# Altium schematic symbol library SSW-106-02-G-D-RA.SchLib: 1 symbol
Pins are listed as number, name and electrical type; pins without a type are passive.

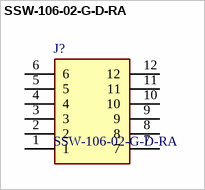
[diagram p0: symbol SSW-106-02-G-D-RA]

## SSW-106-02-G-D-RA
designator J?
12 Position Receptacle Connector 0.100" (2.54mm) Through Hole, Right Angle Gold; Manufacturer_Name: SAMTEC; Geometry.Height: 5.25mm; Mouser Part Number: 200-SSW10602GDRA; Mouser Price/Stock: https://www.mouser.co.uk/ProductDetail/Samtec/SSW-106-02-G-D-RA?qs=rU5fayqh%252BE3y2WIzbQXf2g%3D%3D; Manufacturer_Part_Number: SSW-106-02-G-D-RA; Datasheet Link: http://suddendocs.samtec.com/prints/ssw-1xx-xx-xxx-x-xx-xxx-xx-mkt.pdf
footprint SSW10602GDRA
pins: 1, 2, 3, 4, 5, 6, 7, 8, 9, 10, 11, 12